# EAGLE library part L01-6330 (library MISC)
XFRMR TOROIDAL 7VA THRU HOLE
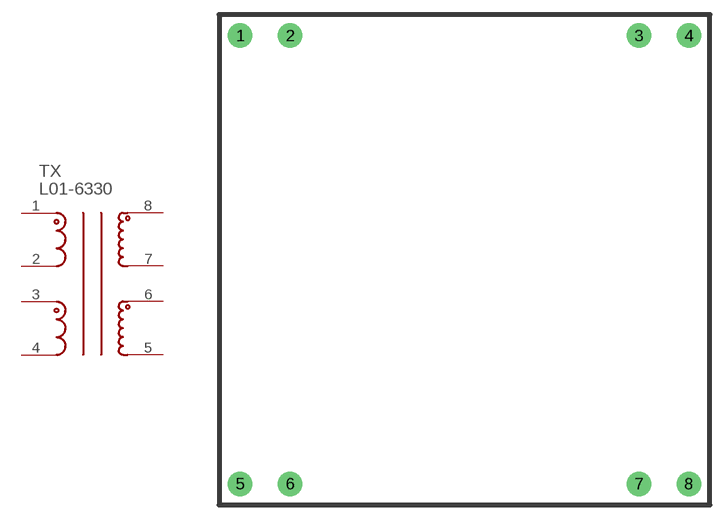
[diagram p5: symbol with the pads of L01-6330; footprint L01-6330]

Designator prefix TX

## L01-6330 (DIGIKEY: TE2238-ND; PRICE_PER: 12; VALUE: L01-6330)  [L01-6330]
1  1
2  2
3  3
4  4
5  5
6  6
7  7
8  8

## Footprint L01-6330 (pad centres in mm)
drill 1.3 pad 2.5: 1 -22.86,22.86; 2 -17.78,22.86; 3 17.78,22.86; 4 22.86,22.86; 5 -22.86,-22.86; 6 -17.78,-22.86; 7 17.78,-22.86; 8 22.86,-22.86